# Altium schematic symbol library IX4428MTR.SchLib: 1 symbol
Pins are listed as number, name and electrical type; pins without a type are passive.

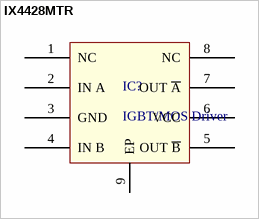
[diagram p0: symbol IX4428MTR]

## IX4428MTR
designator IC?, comment IGBT/MOS Driver
footprint SON65P300X90_HS-9N (SON, 8-Leads, Body 3,00x3,00mm, Pitch 0,65mm, Thermal Pad 2,05x1,70mm, IPC Medium Density)
pins: 1 NC, 2 IN A, 3 GND, 4 IN B, 5 OUT ~{B}, 6 VCC, 7 OUT ~{A}, 8 NC, 9 EP